# Altium footprint library TE_3-644456-5.PcbLib: 1 footprints
Each footprint in its own frame and in the unit in brackets; x right, y up, seen from the top. Pads: shape width x height; smd on the part's side, far side on the other; paste and mask are expansions set on the pad; w line width, h text height; cw(c..) or ccw(c..) is an arc to the next point about the centre after c.
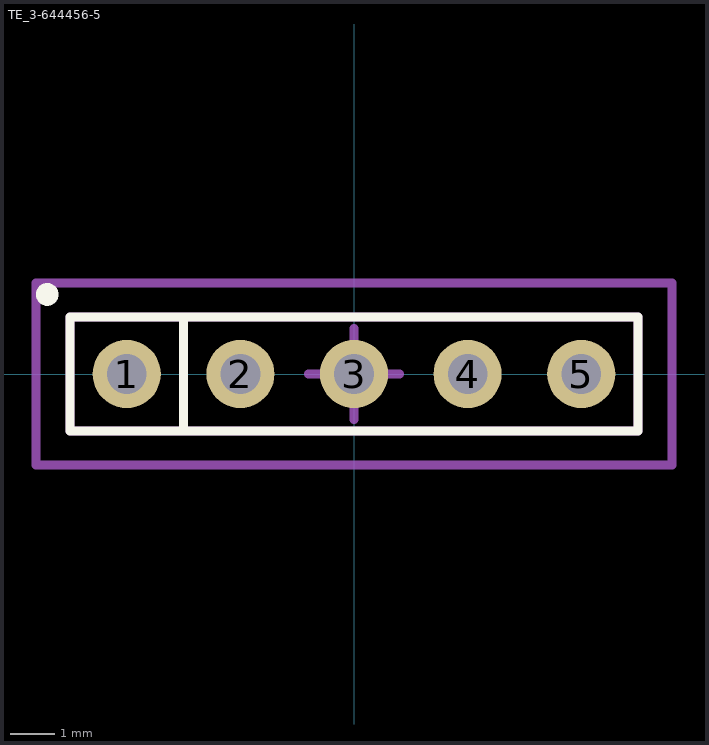
[diagram p0: the footprint, top view; thin cyan lines are the x and y axes]

## TE_3-644456-5 [mil]
pads (5):
  round 60 hole 35: 1(-200,0) 2(-100,0) 3(0,0) 4(100,0) 5(200,0)
Top Overlay:
  circle w10: c-270,70 r5
  lines w7.87: -150,-50 -150,50 ; -250,-50 -250,50 250,50 250,-50 -250,-50
Mechanical 15:
  lines w7.87: -40,0 40,0 ; 0,-40 0,40 ; -280,-80 -280,80 280,80 280,-80 -280,-80
Mechanical 17:
  lines w7.87: -250,-50 250,-50 250,50 -250,50 -250,-50
  text ".Designator" at -240,-40 h30
Mechanical 19:
  lines w7.87: -250,-50 -250,50 250,50 250,-50 -250,-50
  text ".Comment" at -235,-35 h30
3D body: height 395, standoff -110, extent -244.09,-45.99 244.1,46.01